# EAGLE library part ISP-HEADER (library rover12)
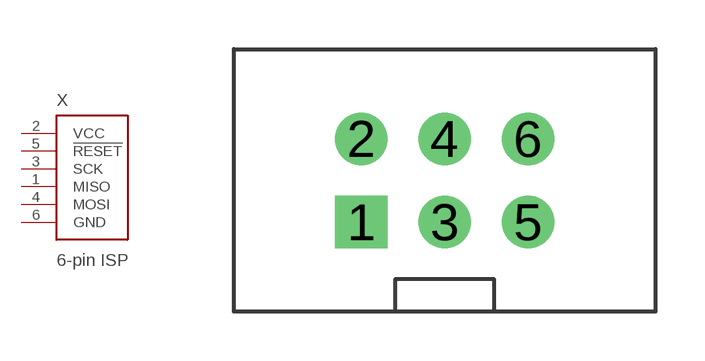
[diagram p2: symbol with the pads of ISP-HEADER; footprint ISP-HEADER]

Designator prefix X

## ISP-HEADER  [ISP-HEADER]
1  MISO
2  VCC  pwr
3  SCK
4  MOSI
5  !RESET!
6  GND  pwr

## Footprint ISP-HEADER (pad centres in mm)
drill 1.02 pad 1.6 square: 1 0,0
drill 1.02 pad 1.6: 2 0,2.54; 3 2.54,0; 4 2.54,2.54; 5 5.08,0; 6 5.08,2.54